# Altium schematic symbol library Schlib1.SchLib: 23 symbols
Pins are listed as number, name and electrical type; pins without a type are passive.

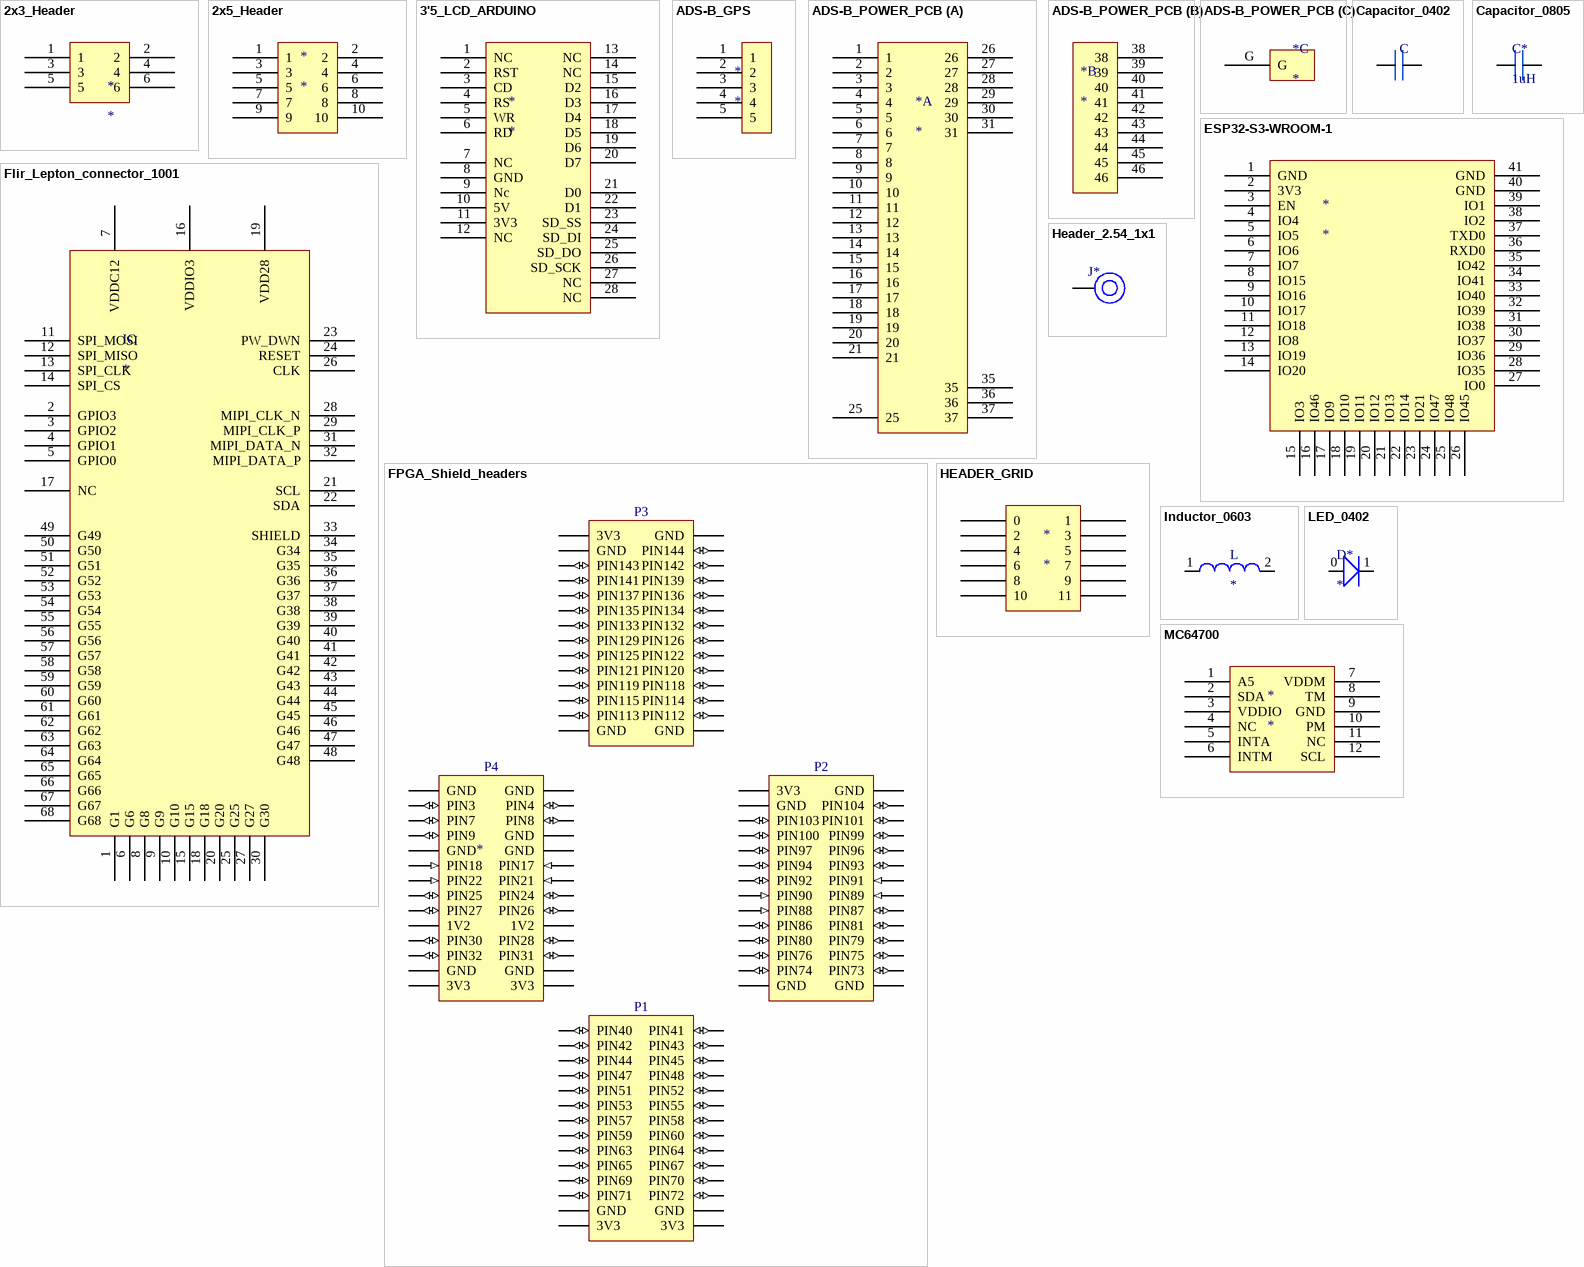
[diagram p0: symbols 2x3_Header to MC64700]

## 2x3_Header
designator *
footprint 2x3 header
pins: 1, 2, 3, 4, 5, 6

## 2x5_Header
designator *
footprint 2x5_HEADER
pins: 1, 2, 3, 4, 5, 6, 7, 8, 9, 10

## 3'5_LCD_ARDUINO
designator *
footprint 3'5_LCD_ARDUINO
pins: 1 NC, 2 RST, 3 CD, 4 RS, 5 WR, 6 RD, 7 NC, 8 GND, 9 Nc, 10 5V, 11 3V3, 12 NC, 13 NC, 14 NC, 15 D2, 16 D3, 17 D4, 18 D5, 19 D6, 20 D7, 21 D0, 22 D1, 23 SD_SS, 24 SD_DI, 25 SD_DO, 26 SD_SCK, 27 NC, 28 NC

## ADS-B_GPS
designator *
footprint ADS-B_GPS
pins: 1, 2, 3, 4, 5

## ADS-B_POWER_PCB
designator *
footprint ADS-B_POWER_PCB
part A pins: 1, 2, 3, 4, 5, 6, 7, 8, 9, 10, 11, 12, 13, 14, 15, 16, 17, 18, 19, 20, 21, 25, 26, 27, 28, 29, 30, 31, 35, 36, 37
part B pins: 38, 39, 40, 41, 42, 43, 44, 45, 46
part C pins: G

## Capacitor_0402
designator C
0402 capacitor
footprint 0402_footprint
footprint 0805_FOOTPRINT
pins: 1, 2

## Capacitor_0805
designator C*, comment 1uH
footprint 0805_FOOTPRINT
pins: 1, 2

## ESP32-S3-WROOM-1
designator *
footprint ESP32-S3-WROOM-1
pins: 1 GND, 2 3V3, 3 EN, 4 IO4, 5 IO5, 6 IO6, 7 IO7, 8 IO15, 9 IO16, 10 IO17, 11 IO18, 12 IO8, 13 IO19, 14 IO20, 15 IO3, 16 IO46, 17 IO9, 18 IO10, 19 IO11, 20 IO12, 21 IO13, 22 IO14, 23 IO21, 24 IO47, 25 IO48, 26 IO45, 27 IO0, 28 IO35, 29 IO36, 30 IO37, 31 IO38, 32 IO39, 33 IO40, 34 IO41, 35 IO42, 36 RXD0, 37 TXD0, 38 IO2, 39 IO1, 40 GND, 41 GND

## Flir_Lepton_connector_1001
designator IC
footprint 105028-1001 (FLIR camera connector form molex)
pins: 1 G1, 2 GPIO3, 3 GPIO2, 4 GPIO1, 5 GPIO0, 6 G6, 7 VDDC12, 8 G8, 9 G9, 10 G10, 11 SPI_MOSI, 12 SPI_MISO, 13 SPI_CLK, 14 SPI_CS, 15 G15, 16 VDDIO3, 17 NC, 18 G18, 19 VDD28, 20 G20, 21 SCL, 22 SDA, 23 PW_DWN, 24 RESET, 25 G25, 26 CLK, 27 G27, 28 MIPI_CLK_N, 29 MIPI_CLK_P, 30 G30, 31 MIPI_DATA_N, 32 MIPI_DATA_P, 33 SHIELD, 34 G34, 35 G35, 36 G36, 37 G37, 38 G38, 39 G39, 40 G40, 41 G41, 42 G42, 43 G43, 44 G44, 45 G45, 46 G46, 47 G47, 48 G48, 49 G49, 50 G50, 51 G51, 52 G52, 53 G53, 54 G54, 55 G55, 56 G56, 57 G57, 58 G58, 59 G59, 60 G60, 61 G61, 62 G62, 63 G63, 64 G64, 65 G65, 66 G66, 67 G67, 68 G68

## FPGA_Shield_headers
designator ?
footprint FPGA_SHIELD_HEADER_FOOTPRINT
pins: 1 GND (power), 2 GND (power), 3 PIN3 (io), 4 PIN4 (io), 5 PIN7 (io), 6 PIN8 (io), 7 PIN9 (io), 8 GND, 9 GND, 10 GND, 11 PIN18 (in), 12 PIN17 (in), 13 PIN22 (in), 14 PIN21 (in), 15 PIN25 (io), 16 PIN24 (io), 17 PIN27 (io), 18 PIN26 (io), 19 1V2, 20 1V2, 21 PIN30 (io), 22 PIN28 (io), 23 PIN32 (io), 24 PIN31 (io), 25 GND, 26 GND, 27 3V3, 28 3V3, 29 3V3, 30 GND, 31 GND, 32 PIN144 (io), 33 PIN143 (io), 34 PIN142 (io), 35 PIN141 (io), 36 PIN139 (io), 37 PIN137 (io), 38 PIN136 (io), 39 PIN135 (io), 40 PIN134 (io), 41 PIN133 (io), 42 PIN132 (io), 43 PIN129 (io), 44 PIN126 (io), 45 PIN125 (io), 46 PIN122 (io), 47 PIN121 (io), 48 PIN120 (io), 49 PIN119 (io), 50 PIN118 (io), 51 PIN115 (io), 52 PIN114 (io), 53 PIN113 (io), 54 PIN112 (io), 55 GND, 56 GND, 57 3V3, 58 GND, 59 GND, 60 PIN104 (io), 61 PIN103 (io), 62 PIN101 (io), 63 PIN100 (io), 64 PIN99 (io), 65 PIN97 (io), 66 PIN96 (io), 67 PIN94 (io), 68 PIN93 (io), 69 PIN92 (io), 70 PIN91 (in), 71 PIN90 (in), 72 PIN89 (in), 73 PIN88 (in), 74 PIN87 (io), 75 PIN86 (io), 76 PIN81 (io), 77 PIN80 (io), 78 PIN79 (io), 79 PIN76 (io), 80 PIN75 (io), 81 PIN74 (io), 82 PIN73 (io), 83 GND, 84 GND, 85 PIN40 (io), 86 PIN41 (io), 87 PIN42 (io), 88 PIN43 (io), 89 PIN44 (io), 90 PIN45 (io), 91 PIN47 (io), 92 PIN48 (io), 93 PIN51 (io), 94 PIN52 (io), 95 PIN53 (io), 96 PIN55 (io), 97 PIN57 (io), 98 PIN58 (io), 99 PIN59 (io), 100 PIN60 (io), 101 PIN63 (io), 102 PIN64 (io), 103 PIN65 (io), 104 PIN67 (io), 105 PIN69 (io), 106 PIN70 (io), 107 PIN71 (io), 108 PIN72 (io), 109 GND, 110 GND, 111 3V3, 112 3V3
text: P3; P4; P2; P1

## Header_2.54_1x1
designator J*
Header 1x1
footprint HEADER_2.54_1x1
pins: 0

## HEADER_GRID
designator *
footprint HEADER_GRID
pins: 0, 1, 2, 3, 4, 5, 6, 7, 8, 9, 10, 11

## Inductor_0603
designator L
0603 inductor
footprint 0603_FOOTPRINT
pins: 1, 2

## LED_0402
designator D*
0402 LED diode
footprint 0402_footprint
pins: 0, 1

## MC64700
designator *
footprint MC6470 (LGA, 12-Leads, Body 1,90x2,10mmx0,95mm, Pitch 0,50mm)
pins: 1 A5, 2 SDA, 3 VDDIO, 4 NC, 5 INTA, 6 INTM, 7 VDDM, 8 TM, 9 GND, 10 PM, 11 NC, 12 SCL

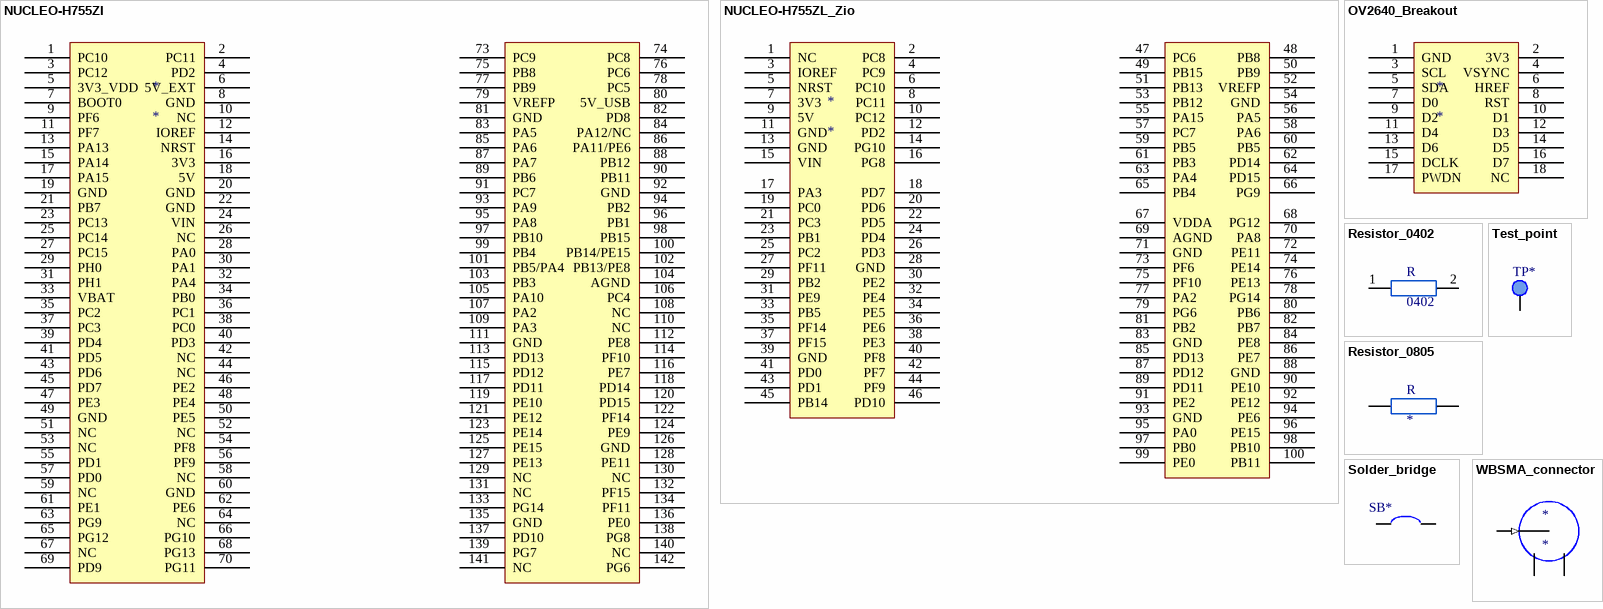
[diagram p1: symbols NUCLEO-H755ZI to WBSMA_connector]

## NUCLEO-H755ZI
designator *
https://www.st.com/en/evaluation-tools/nucleo-h755zi-q.html#documentation; ComponentLink1Description: Datasheet board; ComponentLink1URL: https://www.st.com/resource/en/user_manual/um2408-stm32h7-nucleo144-boards-mb1363-stmicroelectronics.pdf; ComponentLink2Description: Datasheet; ComponentLink2URL: https://www.google.com/url?sa=t&rct=j&q=&esrc=s&source=web&cd=&cad=rja&uact=8&ved=2ahUKEwiL2Oj0qt6BAxVAgv0HHcIABWcQFnoECAkQAQ&url=https%3A%2F%2Fwww.st.com%2Fresource%2Fen%2Fdatasheet%2Fstm32h755bi.pdf&usg=AOvVaw10mo3FsD-TXgt8LL4QIrqK&opi=89978449
footprint H7/H5_NUCLEO_SHIELD
pins: 1 PC10, 2 PC11, 3 PC12, 4 PD2, 5 3V3_VDD, 6 5V_EXT, 7 BOOT0, 8 GND, 9 PF6, 10 NC, 11 PF7, 12 IOREF, 13 PA13, 14 NRST, 15 PA14, 16 3V3, 17 PA15, 18 5V, 19 GND, 20 GND, 21 PB7, 22 GND, 23 PC13, 24 VIN, 25 PC14, 26 NC, 27 PC15, 28 PA0, 29 PH0, 30 PA1, 31 PH1, 32 PA4, 33 VBAT, 34 PB0, 35 PC2, 36 PC1, 37 PC3, 38 PC0, 39 PD4, 40 PD3, 41 PD5, 42 NC, 43 PD6, 44 NC, 45 PD7, 46 PE2, 47 PE3, 48 PE4, 49 GND, 50 PE5, 51 NC, 52 NC, 53 NC, 54 PF8, 55 PD1, 56 PF9, 57 PD0, 58 NC, 59 NC, 60 GND, 61 PE1, 62 PE6, 63 PG9, 64 NC, 65 PG12, 66 PG10, 67 NC, 68 PG13, 69 PD9, 70 PG11, 73 PC9, 74 PC8, 75 PB8, 76 PC6, 77 PB9, 78 PC5, 79 VREFP, 80 5V_USB, 81 GND, 82 PD8, 83 PA5, 84 PA12/NC, 85 PA6, 86 PA11/PE6, 87 PA7, 88 PB12, 89 PB6, 90 PB11, 91 PC7, 92 GND, 93 PA9, 94 PB2, 95 PA8, 96 PB1, 97 PB10, 98 PB15, 99 PB4, 100 PB14/PE15, 101 PB5/PA4, 102 PB13/PE8, 103 PB3, 104 AGND, 105 PA10, 106 PC4, 107 PA2, 108 NC, 109 PA3, 110 NC, 111 GND, 112 PE8, 113 PD13, 114 PF10, 115 PD12, 116 PE7, 117 PD11, 118 PD14, 119 PE10, 120 PD15, 121 PE12, 122 PF14, 123 PE14, 124 PE9, 125 PE15, 126 GND, 127 PE13, 128 PE11, 129 NC, 130 NC, 131 NC, 132 PF15, 133 PG14, 134 PF11, 135 GND, 136 PE0, 137 PD10, 138 PG8, 139 PG7, 140 NC, 141 NC, 142 PG6

## NUCLEO-H755ZL_Zio
designator *
footprint H7/H5_NUCLEO_Zio
pins: 1 NC, 2 PC8, 3 IOREF, 4 PC9, 5 NRST, 6 PC10, 7 3V3, 8 PC11, 9 5V, 10 PC12, 11 GND, 12 PD2, 13 GND, 14 PG10, 15 VIN, 16 PG8, 17 PA3, 18 PD7, 19 PC0, 20 PD6, 21 PC3, 22 PD5, 23 PB1, 24 PD4, 25 PC2, 26 PD3, 27 PF11, 28 GND, 29 PB2, 30 PE2, 31 PE9, 32 PE4, 33 PB5, 34 PE5, 35 PF14, 36 PE6, 37 PF15, 38 PE3, 39 GND, 40 PF8, 41 PD0, 42 PF7, 43 PD1, 44 PF9, 45 PB14, 46 PD10, 47 PC6, 48 PB8, 49 PB15, 50 PB9, 51 PB13, 52 VREFP, 53 PB12, 54 GND, 55 PA15, 56 PA5, 57 PC7, 58 PA6, 59 PB5, 60 PB5, 61 PB3, 62 PD14, 63 PA4, 64 PD15, 65 PB4, 66 PG9, 67 VDDA, 68 PG12, 69 AGND, 70 PA8, 71 GND, 72 PE11, 73 PF6, 74 PE14, 75 PF10, 76 PE13, 77 PA2, 78 PG14, 79 PG6, 80 PB6, 81 PB2, 82 PB7, 83 GND, 84 PE8, 85 PD13, 86 PE7, 87 PD12, 88 GND, 89 PD11, 90 PE10, 91 PE2, 92 PE12, 93 GND, 94 PE6, 95 PA0, 96 PE15, 97 PB0, 98 PB10, 99 PE0, 100 PB11

## OV2640_Breakout
designator *
footprint OV2640_BREAKOUT (Breakout board for camera sensor)
pins: 1 GND, 2 3V3, 3 SCL, 4 VSYNC, 5 SDA, 6 HREF, 7 D0, 8 RST, 9 D2, 10 D1, 11 D4, 12 D3, 13 D6, 14 D5, 15 DCLK, 16 D7, 17 PWDN, 18 NC

## Resistor_0402
designator R, comment 0402
0402 resistor
footprint 0402_footprint
pins: 1, 2

## Resistor_0805
designator R
footprint 0805_FOOTPRINT
pins: 1, 2

## Solder_bridge
designator SB*  (value not drawn)
footprint SOLDER_BRIDGE
pins: 1, 2

## Test_point
designator TP*  (value not drawn)
footprint TEST_POINT
pins: 1

## WBSMA_connector
designator *
footprint WBSMA connector (From Wurth)
pins: 1 (in), 2 (power), 3 (power)